# Altium schematic symbol library cell_level_protection.SchLib: 9 symbols
Pins are listed as number, name and electrical type; pins without a type are passive.

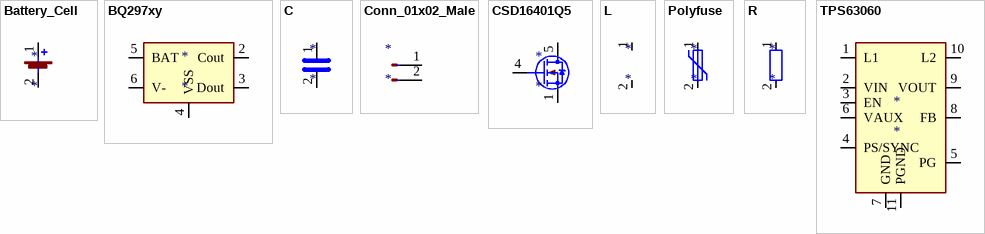
[diagram p0: symbols Battery_Cell to TPS63060]

## Battery_Cell
designator *
pins: 1 +, 2 -

## BQ297xy
designator *
pins: 1 NC hidden, 2 Cout, 3 Dout, 4 VSS, 5 BAT, 6 V-

## C
designator *
pins: 1, 2

## Conn_01x02_Male
designator *
pins: 1 Pin_1, 2 Pin_2

## CSD16401Q5
designator *
pins: 1 S, 2 S hidden, 3 S hidden, 4 G, 5 D

## L
designator *
pins: 1, 2

## Polyfuse
designator *
pins: 1, 2

## R
designator *
pins: 1, 2

## TPS63060
designator *
pins: 1 L1, 2 VIN, 3 EN, 4 PS/SYNC, 5 PG, 6 VAUX, 7 GND, 8 FB, 9 VOUT, 10 L2, 11 PGND